# EAGLE library part TPS65186 (library WISE)
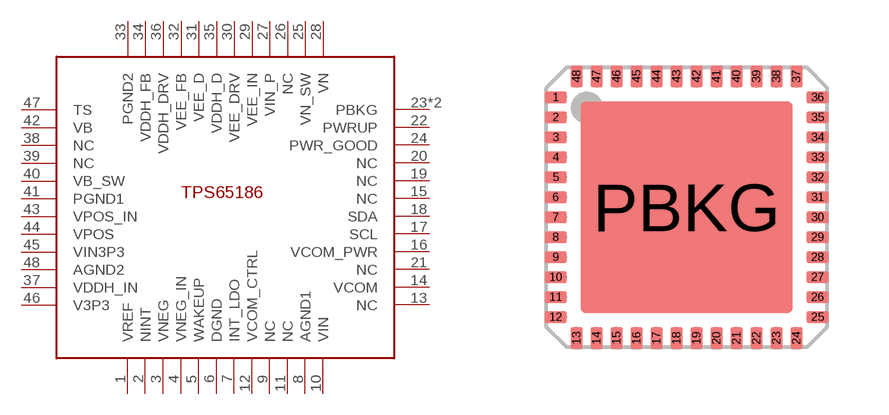
[diagram p5: symbol with the pads of QFN48; footprint QFN48]

Designator prefix -

## TPS65186  [QFN48]
1  VREF
2  NINT
3  VNEG
4  VNEG_IN
5  WAKEUP
6  DGND
7  INT_LDO
8  AGND1
9  NC
10  VIN
11  NC
12  VCOM_CTRL
13  NC
14  VCOM
15  NC
16  VCOM_PWR
17  SCL
18  SDA
19  NC
20  NC
21  NC
22  PWRUP
23  PBKG
24  PWR_GOOD
25  VN_SW
26  NC
27  VIN_P
28  VN
29  VEE_IN
30  VEE_DRV
31  VEE_D
32  VEE_FB
33  PGND2
34  VDDH_FB
35  VDDH_D
36  VDDH_DRV
37  VDDH_IN
38  NC
39  NC
40  VB_SW
41  PGND1
42  VB
43  VPOS_IN
44  VPOS
45  VIN3P3
46  V3P3
47  TS
48  AGND2
PBKG  PBKG

## Footprint QFN48 (pad centres in mm)
48-pin QFN 7 x 7 mm LF48 48 Quad Flat Package No Leads Source: http://v4.cypress.com/cfuploads/img/products/cywusb6934.pdf
smd 0.55 x 0.3: 1 -3.275,2.75; 2 -3.275,2.25; 3 -3.275,1.75; 4 -3.275,1.25; 5 -3.275,0.75; 6 -3.275,0.25; 7 -3.275,-0.25; 8 -3.275,-0.75; 9 -3.275,-1.25; 10 -3.275,-1.75; 11 -3.275,-2.25; 12 -3.275,-2.75; 25 3.275,-2.75; 26 3.275,-2.25; 27 3.275,-1.75; 28 3.275,-1.25; 29 3.275,-0.75; 30 3.275,-0.25; 31 3.275,0.25; 32 3.275,0.75; 33 3.275,1.25; 34 3.275,1.75; 35 3.275,2.25; 36 3.275,2.75
smd 0.3 x 0.55: 13 -2.75,-3.275; 14 -2.25,-3.275; 15 -1.75,-3.275; 16 -1.25,-3.275; 17 -0.75,-3.275; 18 -0.25,-3.275; 19 0.25,-3.275; 20 0.75,-3.275; 21 1.25,-3.275; 22 1.75,-3.275; 23 2.25,-3.275; 24 2.75,-3.275; 37 2.75,3.275; 38 2.25,3.275; 39 1.75,3.275; 40 1.25,3.275; 41 0.75,3.275; 42 0.25,3.275; 43 -0.25,3.275; 44 -0.75,3.275; 45 -1.25,3.275; 46 -1.75,3.275; 47 -2.25,3.275; 48 -2.75,3.275
smd 5.309 x 5.309: PBKG 0,0